# EAGLE library part MCP1727 (library lightsuits)
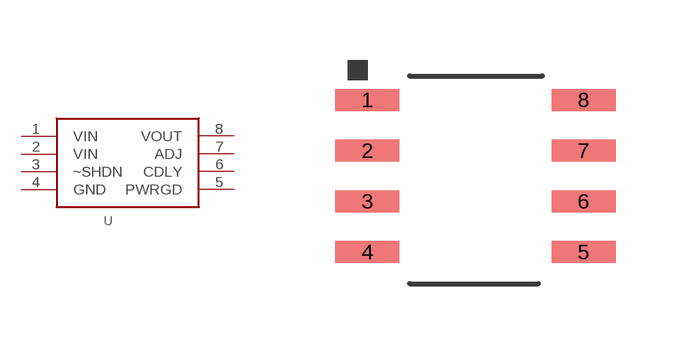
[diagram p10: symbol with the pads of 8-SOIC; footprint 8-SOIC]

Designator prefix -

## MCP1727  [8-SOIC]
1  VIN
2  VIN
3  ~SHDN
4  GND
5  PWRGD
6  CDLY
7  ADJ
8  VOUT

## Footprint 8-SOIC (pad centres in mm)
smd 1.6 x 0.55: 1 0,0; 2 0,-1.27; 3 0,-2.54; 4 0,-3.81; 5 5.4,-3.81; 6 5.4,-2.54; 7 5.4,-1.27; 8 5.4,0